# EAGLE library part PADBANK8 (library WiFiPicoDMX)
Power and isolated-side diagnostic SMD pad bank
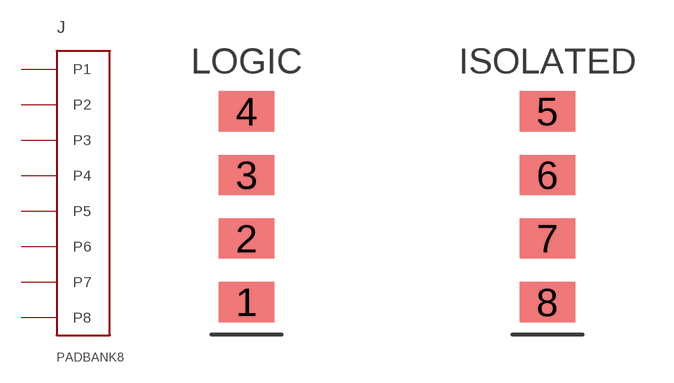
[diagram p1: symbol with the pads of PADBANK8; footprint PADBANK8]

Designator prefix J

## PADBANK8  [PADBANK8]
1  P1  pas
2  P2  pas
3  P3  pas
4  P4  pas
5  P5  pas
6  P6  pas
7  P7  pas
8  P8  pas

## Footprint PADBANK8 (pad centres in mm)
Power and DMX diagnostic pads split into logic-side pads 1-4 and isolated-side pads 5-8. The 12 mm row-centre spacing preserves an 8 mm minimum copper-edge gap.
smd 2.2 x 1.6: 1 -6,-3.81; 2 -6,-1.27; 3 -6,1.27; 4 -6,3.81; 5 6,3.81; 6 6,1.27; 7 6,-1.27; 8 6,-3.81